# EAGLE library part TMC2208 (library teelsys-0.2)
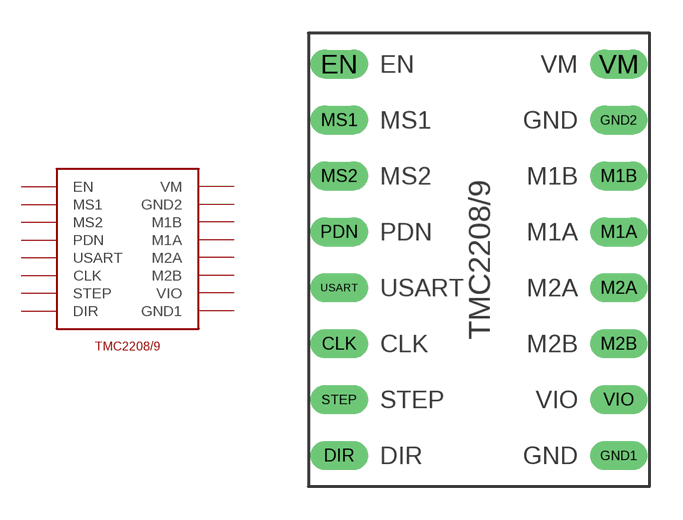
[diagram p19: symbol with the pads of TMC2208; footprint TMC2208]

Designator prefix -

## TMC2208TMC2208_MODULE  [TMC2208]
CLK  CLK
DIR  DIR
EN  EN
GND1  GND1
GND2  GND2
M1A  M1A
M1B  M1B
M2A  M2A
M2B  M2B
MS1  MS1
MS2  MS2
PDN  PDN
STEP  STEP
USART  USART
VIO  VIO
VM  VM

## Footprint TMC2208 (pad centres in mm)
drill 0.8 long: CLK -6.35,5.08; DIR -6.35,0; EN -6.35,17.78; GND1 6.35,0; GND2 6.35,15.24; M1A 6.35,10.16; M1B 6.35,12.7; M2A 6.35,7.62; M2B 6.35,5.08; MS1 -6.35,15.24; MS2 -6.35,12.7; PDN -6.35,10.16; STEP -6.35,2.54; USART -6.35,7.62; VIO 6.35,2.54; VM 6.35,17.78